# Altium schematic symbol library Battery&Holders.SchLib: 10 symbols
Pins are listed as number, name and electrical type; pins without a type are passive.

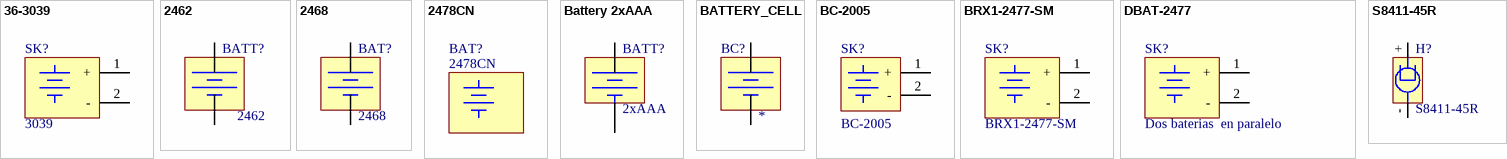
[diagram p0: symbols 36-3039 to S8411-45R]

## 36-3039
designator SK?, comment 3039
BATTERY HOLDER THRU HOLE 2477; Manufacturer: Keystone Electronics; Battery Type, Function: Coin Cell, Retainer; Style: Retainer; Battery Cell Size: Coin, 24.5mm; Number of Cells: 1; Battery Series: 2477; Supplier 1: Digi-Key; Manufacturer Part Number: 3039; RoHS: RoHS Compliant; Category: Battery Products; Stock 1: 26295; Pricing 1: 1=0.69, 10=0.648, 50=0.5184, 100=0.4968, 250=0.4536, 500=0.432, 1000=0.3629, 2500=0.324, 5000=0.3132 (USD); Part Status: Active; Mounting Type: PCB, Through Hole; Termination Style: PC Pin; Height Above Board: 0.336" (8.53mm); Operating Temperature: -; ComponentLink1URL: http://www.keyelco.com/product-pdf.cfm?p=800; ComponentLink1Description: http://www.keyelco.com/product-pdf.cfm?p=800; Value: 3039; Supplier Part Number 1: 36-3039-ND
footprint 36-3039 (BATTERY HOLDER THRU HOLE 2477)
pins: 1 +, 2 -

## 2462
designator BATT?
HOLDER BATTERY 2CELL AA PC MNT; Manufacturer: Keystone Electronics; Battery Type, Function: Cylindrical, Holder; Style: Holder (Open); Number of Cells: 2; Supplier 1: Digi-Key; Manufacturer Part Number: 2462; RoHS: RoHS Compliant; Category: Battery Products; Stock 1: 8125; Pricing 1: 1=1.51, 10=0.968, 50=0.8728, 100=0.8349, 250=0.759, 1000=0.6375, 2500=0.5695, 5000=0.5345 (USD); Part Status: Active; Battery Cell Size: AA; Battery Series: -; Mounting Type: PCB, Through Hole; Termination Style: PC Pin; Height Above Board: 0.630" (16.00mm); Operating Temperature: -; ComponentLink1URL: http://www.keyelco.com/product-pdf.cfm?p=1027; ComponentLink1Description: http://www.keyelco.com/product-pdf.cfm?p=1027; Value: 2462; Supplier Part Number 1: 36-2462-ND
footprint 2462 (2 AA Cell Holder, PC P/N 2462)
pins: +, -

## 2468
designator BAT?
HOLDER BATTERY 2CELL AAA PC MNT; Manufacturer: Keystone Electronics; Battery Type, Function: Cylindrical, Holder; Style: Holder (Open); Number of Cells: 2; Supplier 1: Digi-Key; Manufacturer Part Number: 2468; RoHS: RoHS Compliant; Category: Battery Products; Stock 1: 23458; Pricing 1: 1=1.51, 10=0.968, 50=0.8728, 100=0.8349, 250=0.759, 1000=0.6375, 2500=0.5695, 5000=0.5345 (USD); Part Status: Active; Battery Cell Size: AAA; Battery Series: -; Mounting Type: PCB, Through Hole; Termination Style: PC Pin; Height Above Board: 0.512" (13.00mm); Operating Temperature: -; ComponentLink1URL: http://www.keyelco.com/product-pdf.cfm?p=1033; ComponentLink1Description: http://www.keyelco.com/product-pdf.cfm?p=1033; Value: 2468; Supplier Part Number 1: 36-2468-ND
footprint 2468 (HOLDER BATTERY 2CELL AAA PC MNT)
pins: +, -

## 2478CN
designator BAT?
BATT HLDR AA 4 CELL LEADS W/CONN; Manufacturer: Keystone Electronics; Supplier 1: Digi-Key; Supplier Part Number 1: 36-2478CN-ND; Manufacturer Part Number: 2478CN; Stock 1: 969; Pricing 1: 1=1.88, 10=1.709, 50=1.5346, 100=1.4648, 250=1.3252, 500=1.2206, 1000=1.0463, 2500=0.9765, 5000=0.9277 (USD)
footprint 2478CN (BATT HLDR AA 4 CELL LEADS W/CONN)

## Battery 2xAAA
designator BATT?, comment 2xAAA
Value: 2xAAA
footprint 2xAAA
footprint 2xAAA - 2
footprint 1AAA
footprint AAA-keystone-1021
footprint AAA-keystone-1021 - X2
pins: 1 +, 3 -

## BATTERY_CELL
designator BC?
Battery Cell; Value: *
footprint BAT_CELL
pins: CELL+ +, CELL- -

## BC-2005
designator SK?
CR2450 BATTERY STRAP SMT; Manufacturer: MPD (Memory Protection Devices); Battery Type, Function: Coin Cell, Retainer; Style: Retainer; Battery Cell Size: Coin, 24.5mm; Number of Cells: 1; Battery Series: 2450; Supplier 1: Digi-Key; Manufacturer Part Number: BC-2005; RoHS: RoHS Compliant; Category: Battery Products; Stock 1: 8830; Pricing 1: 1=0.38, 10=0.35, 100=0.3151, 500=0.2836, 1000=0.2626 (USD); Part Status: Active; Mounting Type: PCB, Surface Mount; Termination Style: SMD (SMT) Tab; Height Above Board: 0.220" (5.59mm); Operating Temperature: -; ComponentLink1URL: http://www.memoryprotectiondevices.com/datasheets/BC-2005-datasheet.pdf; ComponentLink1Description: http://www.memoryprotectiondevices.com/datasheets/BC-2005-datasheet.pdf; Supplier Part Number 1: BC-2005-ND; Value: BC-2005
footprint BC-2005 (CR2450 BATTERY STRAP SMT)
pins: 1 +, 2 -

## BRX1-2477-SM
designator SK?
COIN CELL RETAINER 2477 SMT; Manufacturer: MPD (Memory Protection Devices); Battery Type, Function: Coin Cell, Retainer; Battery Cell Size: Coin, 24.5mm; Number of Cells: 1; Battery Series: 2477; Supplier 1: Digi-Key; Manufacturer Part Number: BRX1-2477-SM; RoHS: RoHS Compliant; Category: Battery Products; Stock 1: 2585; Pricing 1: 1=0.88, 10=0.816 (USD); Part Status: Active; Style: Retainer; Mounting Type: PCB, Surface Mount; Termination Style: SMD (SMT) Tab; Height Above Board: 0.343" (8.70mm); Operating Temperature: -; ComponentLink1URL: http://www.memoryprotectiondevices.com/datasheets/BRX1-2477-SM-datasheet.pdf; ComponentLink1Description: http://www.memoryprotectiondevices.com/datasheets/BRX1-2477-SM-datasheet.pdf; Supplier Part Number 1: BRX1-2477-SMCT-ND
footprint BRX1-2477 (CR2477 SURFACE MOUNT BATTERY RETAINER)
pins: 1 +, 2 -

## DBAT-2477
designator SK?, comment Dos baterias  en paralelo
COIN CELL RETAINER 2477 SMT(HOLDER PAR DOS BATERIAS EN PARALELO); Value: *
footprint DBAT-2477 (DOBLE CR2477 PARALELO SURFACE MOUNT BATTERY RETAINER)
pins: 1 +, 2 -

## S8411-45R
designator H?
BATTERY HOLDER 12.0MM COIN SMD; Manufacturer: Harwin Inc.; Battery Type, Function: Coin Cell, Holder; Style: Holder (Open); Battery Cell Size: Coin, 12.0mm; Number of Cells: 1; Battery Series: 1220; Supplier 1: Digi-Key; Manufacturer Part Number: S8411-45R; RoHS: RoHS Compliant; Category: Battery Products; Stock 1: 5238; Pricing 1: 1=1.18, 10=1.064, 50=0.946, 100=0.8278, 250=0.7568 (USD); Part Status: Active; Mounting Type: PCB, Surface Mount; Termination Style: SMD (SMT) Tab; Height Above Board: 0.167" (4.25mm); Operating Temperature: -55°C ~ 105°C; ComponentLink1URL: https://cdn.harwin.com/pdfs/S8411R.pdf; ComponentLink1Description: https://cdn.harwin.com/pdfs/S8411R.pdf; Value: S8411-45R; Supplier Part Number 1: 952-1745-6-ND
footprint S8411-45R
pins: +, -